# EAGLE library part SP410312N (library SP410312N)
3-digit 7-segment LED display
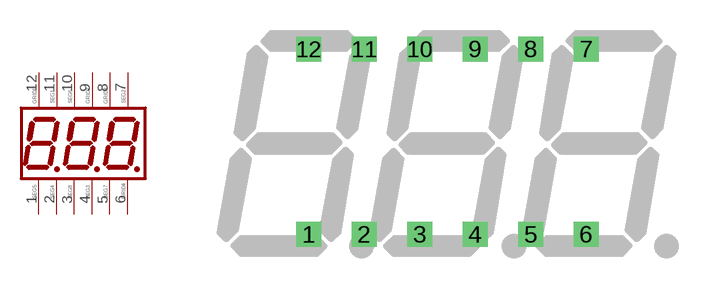
[diagram p0: symbol with the pads of 3D7SEG; footprint 3D7SEG]

Designator prefix -

## SP410312N  [3D7SEG]
1  SEG5  pas
2  SEG4  pas
3  SEG8  pas
4  SEG3  pas
5  SEG7  pas
6  GRID4  pas
7  SEG2  pas
8  GRID3  pas
9  GRID2  pas
10  SEG6  pas
11  SEG1  pas
12  GRID1  pas

## Footprint 3D7SEG (pad centres in mm)
LED DISPLAY 10-mm 1 character 7 segment, decimal point right
drill 0.635 square: 1 4.128,1.228; 2 6.668,1.228; 3 9.207,1.228; 4 11.748,1.228; 5 14.287,1.228; 6 16.828,1.228; 7 16.828,9.727; 8 14.287,9.727; 9 11.748,9.727; 10 9.207,9.727; 11 6.668,9.727; 12 4.128,9.727